# Altium footprint library RGB_Lamp.PcbLib: 1 footprints
Each footprint in its own frame and in the unit in brackets; x right, y up, seen from the top. Pads: shape width x height; smd on the part's side, far side on the other; paste and mask are expansions set on the pad; w line width, h text height; cw(c..) or ccw(c..) is an arc to the next point about the centre after c.
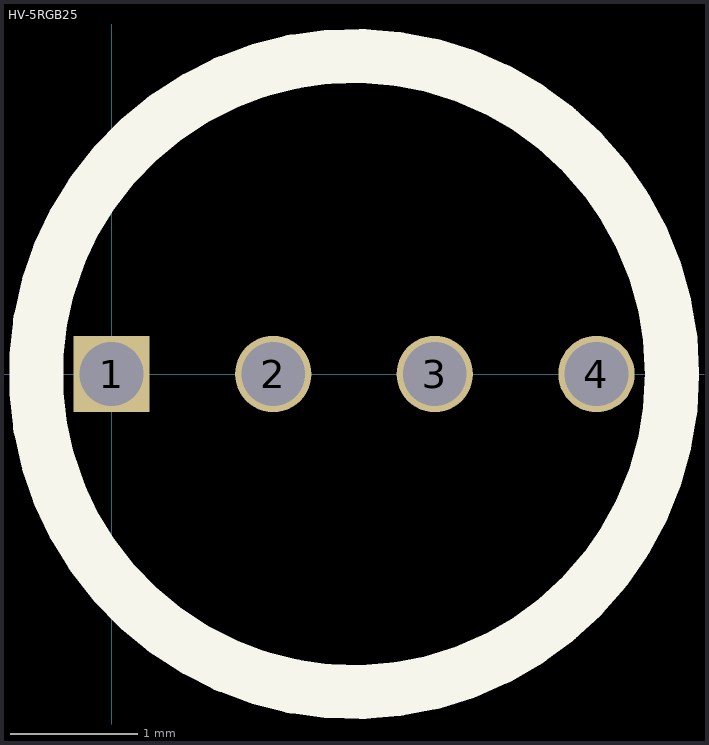
[diagram p0: the footprint, top view; thin cyan lines are the x and y axes]

## HV-5RGB25 [mm]
pads (4):
  rect 0.6x0.6 hole 0.5: 1(0,0)
  round 0.6 hole 0.5: 2(1.27,0) 3(2.54,0) 4(3.81,0)
Top Overlay:
  circle w0.425: c1.905,0 r2.5